# Altium footprint library Resistors.PcbLib: 10 footprints
Each footprint in its own frame and in the unit in brackets; x right, y up, seen from the top. Pads: shape width x height; smd on the part's side, far side on the other; paste and mask are expansions set on the pad; w line width, h text height; cw(c..) or ccw(c..) is an arc to the next point about the centre after c.
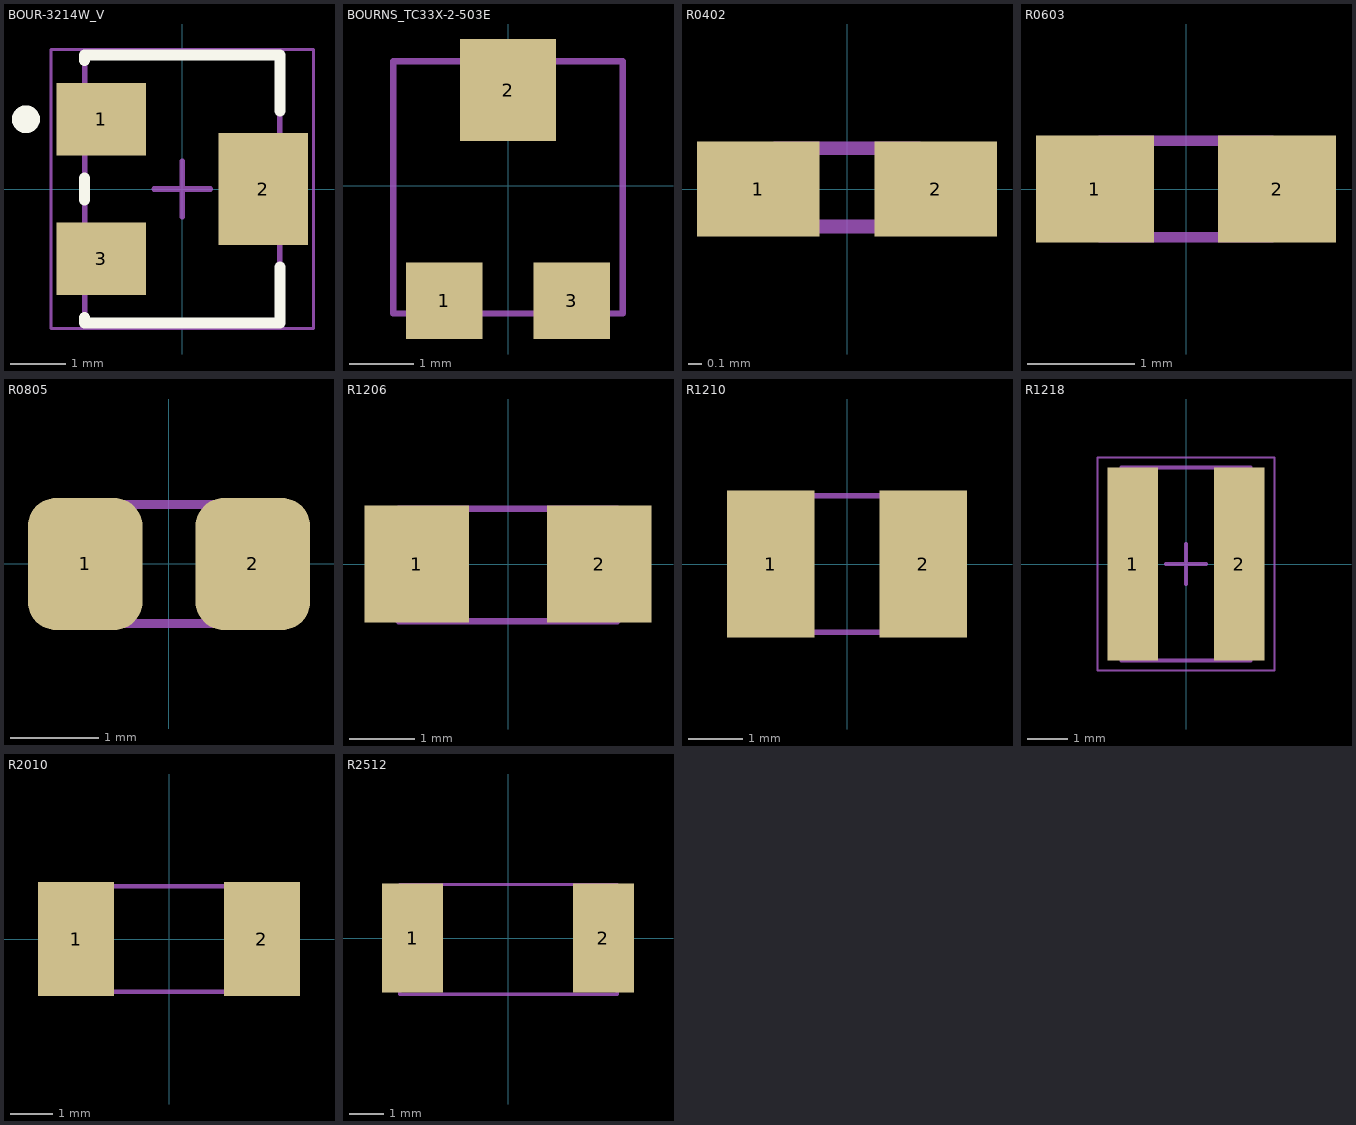
[diagram p0: the footprints below, top view; thin cyan lines are the x and y axes]

## BOUR-3214W_V [mm] "SMD, 3-Leads, Body 3.5x4.8mm, Pitch 1.25mm"
height 5.55
pads (3):
  rect 1.6x1.3 smd paste+0: 1(-1.45,1.25) 3(-1.45,-1.25)
  rect 1.6x2 smd paste+0: 2(1.45,0)
Top Overlay:
  circle w0.25: c-2.8,1.25 r0.125
  lines w0.2: -1.75,-2.3 -1.75,-2.4 1.75,-2.4 1.75,-1.4 ; -1.75,-0.2 -1.75,0.2 ; -1.75,2.3 -1.75,2.4 1.75,2.4 1.75,1.4
Mechanical 13:
  lines w0.1: -1.75,-2.4 1.75,-2.4 1.75,2.4 -1.75,2.4 -1.75,-2.4
Mechanical 15:
  lines w0.05: -2.35,-2.5 2.35,-2.5 2.35,2.5 -2.35,2.5 -2.35,-2.5
  lines w0.1: -0.5,0 0.5,0 ; 0,-0.5 0,0.5
Top Placement:
  lines w0.1: -1.75,-2.4 -1.75,2.4 1.75,2.4 1.75,-2.4 -1.75,-2.4
  text ".Designator" at -0.25,-0.15 h0.5
3D body "3214W.stp": height 5.28, standoff 0, extent -1.978,-2.413 1.978,2.413

## BOURNS_TC33X-2-503E [mm]
pads (3):
  rect 1.2x1.2 smd: 1(-1,-1.8) 3(1,-1.8)
  rect 1.5x1.6 smd: 2(0,1.5)
Top Placement:
  lines w0.1: -1.8,-2 1.8,-2 1.8,1.95 -1.8,1.95 -1.8,-2
  text ".Designator" at -0.575,-0.125 h0.4
3D body "TC-33X-2.stp": height 1.13, standoff -0.02, extent -1.8,-2.018 1.8,1.945

## R0402 [mm] "IPC-standard"
height 0.4
pads (2):
  rect 0.9x0.7 smd: 1(-0.65,0) 2(0.65,0)
Top Placement:
  lines w0.1: -0.525,-0.275 -0.525,0.3 0.525,0.3 0.525,-0.275 -0.525,-0.275
  text ".Designator" at -0.2,-0.125 h0.4
3D body "User Library-0402R.STEP": height 0.32, standoff -0.02, extent -0.52,-0.3 0.52,0.3

## R0603 [mm] "IPC-standard"
height 0.6
pads (2):
  rect 1.1x1 smd: 1(-0.85,0) 2(0.85,0)
Top Placement:
  lines w0.1: -0.8,-0.45 -0.8,0.45 0.8,0.45 0.8,-0.45 -0.8,-0.45
  text ".Designator" at -0.25,-0.15 h0.5
3D body "User Library-R_0603.STEP": height 0.5, standoff 0, extent -0.8,-0.45 0.8,0.45

## R0805 [mm] "IPC-Standard"
height 0.65
pads (2):
  rrect50% 1.3x1.5 smd: 1(-0.95,0) 2(0.95,0)
Top Layer:
  text "String" at -0.125,1.075 h1.52
Top Placement:
  lines w0.1: -1.15,-0.675 1.15,-0.675 1.15,0.675 -1.15,0.675 -1.15,-0.675
  text ".Designator" at -0.25,-0.15 h0.5
3D body "User Library-RES_2013-0805.STEP": height 0.76, standoff 0, extent -1.15,-0.675 1.15,0.675

## R1206 [mm] "IPC-Standard"
height 0.71
pads (2):
  rect 1.6x1.8 smd: 1(-1.4,0) 2(1.4,0)
Top Placement:
  lines w0.1: -1.675,-0.875 1.675,-0.875 1.675,0.85 -1.675,0.85 -1.675,-0.875
  text ".Designator" at -0.25,-0.15 h0.5
3D body "User Library-RES_3216-1206.STEP": height 0.85, standoff 0, extent -1.675,-0.865 1.675,0.865

## R1210 [mm] "IPC-Standard"
height 0.71
pads (2):
  rect 1.6x2.7 smd: 1(-1.4,0) 2(1.4,0)
Top Placement:
  lines w0.1: -1.6,-1.25 1.6,-1.25 1.6,1.25 -1.6,1.25 -1.6,-1.25
  text ".Designator" at -0.25,-0.15 h0.5
3D body "User Library-R_1210.STEP": height 0.6, standoff 0, extent -1.6,-1.25 1.6,1.25

## R1218 [mm] "Chip Resistor, 2-Leads, Body 3,05x4,60mm, IPC Medium Density"
height 0.65
pads (2):
  rect 1.25x4.8 smd: 1(-1.325,0) 2(1.325,0)
Mechanical 15:
  lines w0.05: -2.2,-2.65 2.2,-2.65 2.2,2.65 -2.2,2.65 -2.2,-2.65
  lines w0.1: -0.5,0 0.5,0 ; 0,-0.5 0,0.5
Top Placement:
  lines w0.1: -1.6,-2.4 -1.6,2.4 1.6,2.4 1.6,-2.4 -1.6,-2.4
  text ".Designator" at -0.25,-0.15 h0.5
3D body: height 0.65, standoff 0, extent 1.1,-2.4 1.6,2.4
3D body: height 0.65, standoff 0, extent -1.6,-2.4 -1.1,2.4
3D body: height 0.65, standoff 0, extent -1.1,-2.4 1.1,2.4

## R2010 [mm] "IPC-Standard"
height 0.71
pads (2):
  rect 1.8x2.7 smd: 1(-2.2,0) 2(2.2,0)
Top Placement:
  lines w0.1: -2.5,-1.25 2.5,-1.25 2.5,1.25 -2.5,1.25 -2.5,-1.25
  text ".Designator" at -0.25,-0.15 h0.5
3D body "User Library-R_2010.STEP": height 0.6, standoff 0, extent -2.5,-1.25 2.5,1.25

## R2512 [mm] "IPC-Standard"
height 0.71
pads (2):
  rect 1.8x3.2 smd: 1(-2.8,0) 2(2.8,0)
Top Placement:
  lines w0.1: -3.175,-1.65 -3.175,1.575 3.2,1.575 3.2,-1.65 -3.175,-1.65
  text ".Designator" at -0.25,-0.15 h0.5
3D body "User Library-R_2512.STEP": height 0.6, standoff 0, extent -3.2,-1.6 3.2,1.6